# Altium schematic symbol library Optocoupler.SCHLIB: 76 symbols
Pins are listed as number, name and electrical type; pins without a type are passive.

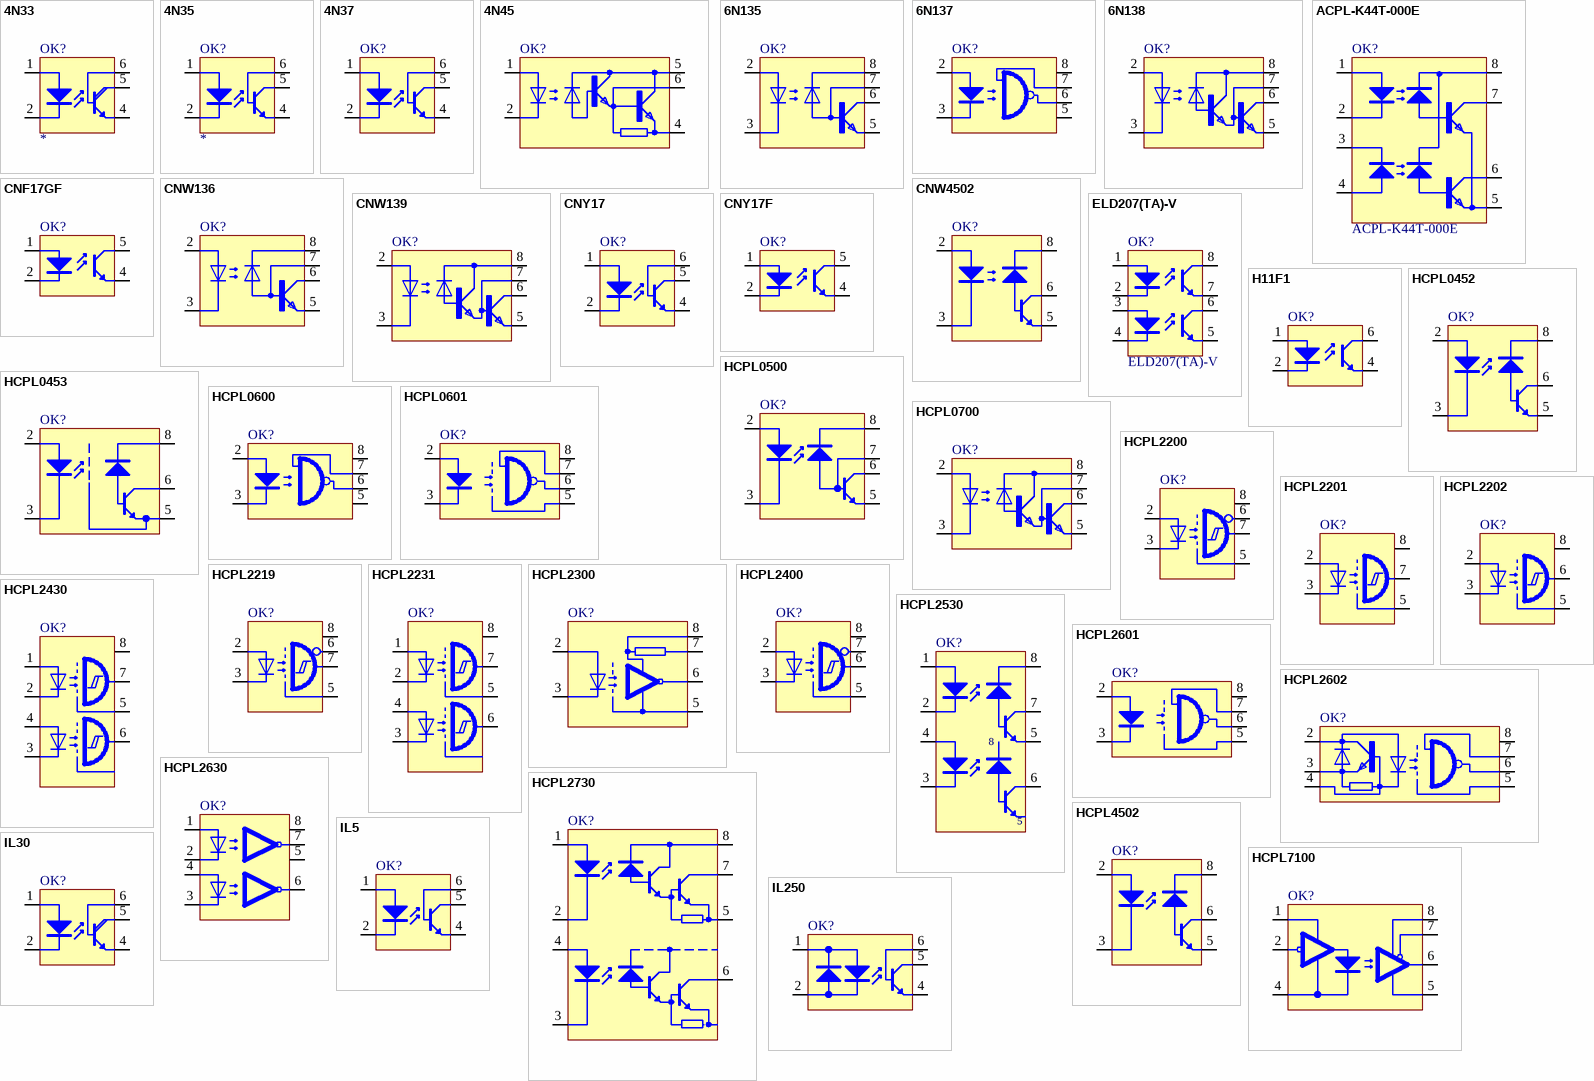
[diagram p0: symbols 4N33 to IL250]

## 4N33
designator OK?
Optocoupler, Photodarlington Output, High Gain,  with Base Connection; Populated: Yes; Value: *; LifeCycle: Checked; ROHS: Yes
footprint DIL06
pins: 1 A, 2 C, 4 E, 5 COL, 6 B

## 4N35
designator OK?
Optocoupler, Photodarlington Output with Base Connection; Populated: Yes; Value: *; LifeCycle: Checked; ROHS: Yes
footprint DIL06
pins: 1 A, 2 C, 4 EMI, 5 COL, 6 BAS

## 4N37
designator OK?
Optocoupler, Photodarlington Output with Base Connection; Populated: Yes; LifeCycle: Checked; ROHS: Yes
footprint DIL06
pins: 1 A, 2 C, 4 EMI, 5 COL, 6 BAS

## 4N45
designator OK?
Optocoupler High Gain Darlington Output; Populated: Yes; LifeCycle: Checked; ROHS: Yes
footprint DIL06
pins: 1 A, 2 C, 4 GND, 5 VO, 6 B

## 6N135
designator OK?
Optocoupler High Speed; Populated: Yes; LifeCycle: Checked; ROHS: Yes
footprint DIL08
pins: 2 A, 3 C, 5 GND, 6 VO, 7 VB, 8 VCC

## 6N137
designator OK?
Optocoupler; Populated: Yes; LifeCycle: Checked; ROHS: Yes
footprint DIL08
pins: 2 A, 3 C, 5 GND, 6 VO, 7 VE, 8 VCC

## 6N138
designator OK?
Optocoupler; Populated: Yes; LifeCycle: Checked; ROHS: Yes
footprint DIL08
pins: 2 A, 3 C, 5 GND, 6 VO, 7 VB, 8 VCC

## ACPL-K44T-000E
designator OK?
OPTOISOLATOR 5KV 2CH TRANSISTOR; Manufacturer: Broadcom Limited; Number of Channels: 2; Voltage - Isolation: 5000Vrms; Current Transfer Ratio (Min): 32% @ 10mA; Current Transfer Ratio (Max): 100% @ 10mA; Turn On / Turn Off Time (Typ): 150ns, 500ns; Input Type: DC; Voltage - Output (Max): 20V; Current - Output / Channel: 8mA; Voltage - Forward (Vf) (Typ): 1.55V; Current - DC Forward (If) (Max): 20mA; Supplier 1: Digi-Key; Manufacturer Part Number: ACPL-K44T-000E; RoHS: RoHS Compliant; Category: Isolators; Stock 1: 1090; Pricing 1: 1=7.06, 10=5.885, 25=4.9436, 100=4.2372, 250=3.7664, 500=3.4133, 1000=3.13082, 2500=3.00135 (USD); Packaging: Tube; Rise / Fall Time (Typ): -; Output Type: Transistor; Vce Saturation (Max): -; Operating Temperature: -40°C ~ 125°C; Mounting Type: Surface Mount; Package / Case: 8-SOIC (0.268", 6.81mm Width); Supplier Device Package: 8-SO; ComponentLink1URL: http://www.avagotech.com/docs/AV02-3179EN; ComponentLink1Description: http://www.avagotech.com/docs/AV02-3179EN; Supplier Part Number 1: 516-3288-5-ND; Value: ACPL-K44T-000E
footprint ACPL-K44T-000E (SOIC, 8-Leads, Body 5,85x6,81mm, Pitch 1,27mm, IPC Low Density)
pins: 1 A1, 2 C1, 3 C2, 4 A2, 5 GND, 6 VO2, 7 VO1, 8 VCC

## CNF17GF
designator OK?
Optocoupler; Populated: Yes; LifeCycle: Checked; ROHS: Yes
footprint DIL06B
pins: 1 A, 2 C, 4 EMIT, 5 COL

## CNW136
designator OK?
Optocoupler; Populated: Yes; LifeCycle: Checked; ROHS: Yes
footprint DIL08HP4
pins: 2 A, 3 C, 5 GND, 6 VO, 7 VB, 8 VCC

## CNW139
designator OK?
Optocoupler; Populated: Yes; LifeCycle: Checked; ROHS: Yes
footprint DIL08HP4
pins: 2 A, 3 C, 5 GND, 6 VO, 7 VB, 8 VCC

## CNW4502
designator OK?
Optocoupler; Populated: Yes; LifeCycle: Checked; ROHS: Yes
footprint DIL08HP4
pins: 2 A, 3 C, 5 GND, 6 VO, 8 VCC

## CNY17
designator OK?
Optocoupler; Populated: Yes; LifeCycle: Checked; ROHS: Yes
footprint DIL06
pins: 1 A, 2 C, 4 EMI, 5 COL, 6 BAS

## CNY17F
designator OK?
Optocoupler; Populated: Yes; LifeCycle: Checked; ROHS: Yes
footprint DIL06
pins: 1 A, 2 C, 4 EMIT, 5 COL

## ELD207(TA)-V
designator OK?
Optocoupler DC-IN 2-CH Transistor DC-OUT 8-Pin SOP T/R; Manufacturer 1: Everlight; Forward Voltage: 1.2V; Max Output Voltage: 80V; Max Collector Current: 50mA; Collector Emitter Saturation Voltage: 400mV; Max Input Current: 60mA; Number of Channels: 2; Max Power Dissipation: 250mW; Supplier 1: Digi-Key; Manufacturer Part Number 1: ELD207(TA)-V; Stock 1: 80357; Pricing 1: 1=0,72000, 10=0,56400, 100=0,36230, 500=0,30590, 1000=0,24150 (USD); RoHS: Yes; Mount: Surface Mount; Case/Package: SOP; Number of Pins: 8; Min Operating Temperature: -55°C; Max Operating Temperature: 110°C; Packaging: Tape and Reel; Package Quantity: 1; Collector Emitter Voltage (VCEO): 400mV; Lead Free: Lead Free; ComponentLink1URL: https://datasheet.ciiva.com/2086/eld20x-21x-2086837.pdf?src-supplier=Digi-Key; ComponentLink1Description: https://datasheet.ciiva.com/2086/eld20x-21x-2086837.pdf?src-supplier=Digi-Key; ComponentLink2URL: https://datasheet.ciiva.com/2086/eld20x-21x-2086838.pdf?src-supplier=Digi-Key; ComponentLink2Description: https://datasheet.ciiva.com/2086/eld20x-21x-2086838.pdf?src-supplier=Digi-Key; ComponentLink3URL: https://datasheet.ciiva.com/2086/eld20x-21x-2086839.pdf?src-supplier=Digi-Key; ComponentLink3Description: https://datasheet.ciiva.com/2086/eld20x-21x-2086839.pdf?src-supplier=Digi-Key; Value: ELD207(TA)-V; Supplier Part Number 1: 1080-1200-1-ND
footprint SOIC127P580X318-8N (SOIC, 8-Leads, Body 4,88x3,92mm, Pitch 1,27mm, IPC Medium Density)
pins: 1 A, 2 C, 3 A, 4 C, 5 EMIT, 6 COL, 7 EMIT, 8 COL

## H11F1
designator OK?
Optocoupler; Populated: Yes; LifeCycle: Checked; ROHS: Yes
footprint DIL05
pins: 1 A, 2 C, 4 EMIT, 6 COL

## HCPL0452
designator OK?
Optocoupler; Populated: Yes; LifeCycle: Checked; ROHS: Yes
footprint SOIC08
pins: 2 A, 3 C, 5 GND, 6 VO, 8 VCC

## HCPL0453
designator OK?
Optocoupler; Populated: Yes; LifeCycle: Checked; ROHS: Yes
footprint SOIC08
pins: 2 A, 3 C, 5 GND, 6 VO, 8 VCC

## HCPL0500
designator OK?
Optocoupler; Populated: Yes; LifeCycle: Checked; ROHS: Yes
footprint SOIC08
pins: 2 A, 3 C, 5 GND, 6 VO, 7 VB, 8 VCC

## HCPL0600
designator OK?
Optocoupler; Populated: Yes; LifeCycle: Checked; ROHS: Yes
footprint SOIC08
pins: 2 A, 3 C, 5 GND, 6 VO, 7 VE, 8 VCC

## HCPL0601
designator OK?
Optocoupler; Populated: Yes; LifeCycle: Checked; ROHS: Yes
footprint SOIC08
pins: 2 A, 3 C, 5 GND, 6 VO, 7 VE, 8 VCC

## HCPL0700
designator OK?
Optocoupler; Populated: Yes; LifeCycle: Checked; ROHS: Yes
footprint SOIC08
pins: 2 A, 3 C, 5 GND, 6 VO, 7 VB, 8 VCC

## HCPL2200
designator OK?
Optocoupler; Populated: Yes; LifeCycle: Checked; ROHS: Yes
footprint DIL08
pins: 2 A, 3 C, 5 GND, 6 VE, 7 VO, 8 VCC

## HCPL2201
designator OK?
Optocoupler; Populated: Yes; LifeCycle: Checked; ROHS: Yes
footprint DIL08
pins: 2 A, 3 C, 5 GND, 7 OUT, 8 VCC

## HCPL2202
designator OK?
Optocoupler; Populated: Yes; LifeCycle: Checked; ROHS: Yes
footprint DIL08
pins: 2 A, 3 C, 5 GND, 6 OUT, 8 VCC

## HCPL2219
designator OK?
Optocoupler; Populated: Yes; LifeCycle: Checked; ROHS: Yes
footprint DIL08
pins: 2 A, 3 C, 5 GND, 6 VE, 7 VO, 8 VCC

## HCPL2231
designator OK?
Optocoupler; Populated: Yes; LifeCycle: Checked; ROHS: Yes
footprint DIL08
pins: 1 A, 2 C, 3 C, 4 A, 5 GND, 6 OUT, 7 OUT, 8 VCC

## HCPL2300
designator OK?
Optocoupler; Populated: Yes; LifeCycle: Checked; ROHS: Yes
footprint DIL08
pins: 2 A, 3 C, 5 GND, 6 VO, 7 RL, 8 VCC

## HCPL2400
designator OK?
Optocoupler; Populated: Yes; LifeCycle: Checked; ROHS: Yes
footprint DIL08
pins: 2 A, 3 C, 5 GND, 6 VO, 7 VE, 8 VCC

## HCPL2430
designator OK?
Optocoupler; Populated: Yes; LifeCycle: Checked; ROHS: Yes
footprint DIL08
pins: 1 A, 2 C, 3 C, 4 A, 5 GND, 6 OUT, 7 OUT, 8 VCC

## HCPL2530
designator OK?
Optocoupler; Populated: Yes; LifeCycle: Checked; ROHS: Yes
footprint DIL08
pins: 1 A1, 2 C1, 3 C2, 4 A2, 5 GND, 6 VO2, 7 VO1, 8 VCC

## HCPL2601
designator OK?
Optocoupler; Populated: Yes; LifeCycle: Checked; ROHS: Yes
footprint DIL08
pins: 2 A, 3 C, 5 GND, 6 OUT, 7 EN, 8 VCC

## HCPL2602
designator OK?
Optocoupler; Populated: Yes; LifeCycle: Checked; ROHS: Yes
footprint DIL08
pins: 2 +, 3 -, 4 B, 5 GND, 6 OUT, 7 EN, 8 VCC

## HCPL2630
designator OK?
Optocoupler; Populated: Yes; LifeCycle: Checked; ROHS: Yes
footprint DIL08
pins: 1 A1, 2 C1, 3 C2, 4 A2, 5 GND, 6 VO2, 7 VO1, 8 VCC

## HCPL2730
designator OK?
Optocoupler; Populated: Yes; LifeCycle: Checked; ROHS: Yes
footprint DIL08
pins: 1 A1, 2 C1, 3 C2, 4 A2, 5 GND, 6 VO2, 7 VO1, 8 VCC

## HCPL4502
designator OK?
Optocoupler; Populated: Yes; LifeCycle: Checked; ROHS: Yes
footprint DIL08
pins: 2 A, 3 C, 5 GND, 6 VO, 8 VCC

## HCPL7100
designator OK?
Optocoupler; Populated: Yes; LifeCycle: Checked; ROHS: Yes
footprint DIL08
pins: 1 VDD1, 2 VI, 4 GND1, 5 GND2, 6 VO, 7 VE, 8 VDD2

## IL5
designator OK?
Optocoupler; Populated: Yes; LifeCycle: Checked; ROHS: Yes
footprint DIL06
pins: 1 A, 2 C, 4 EMI, 5 COL, 6 BAS

## IL30
designator OK?
Optocoupler; Populated: Yes; LifeCycle: Checked; ROHS: Yes
footprint DIL06
pins: 1 A, 2 C, 4 E, 5 COL, 6 B

## IL250
designator OK?
Optocoupler; Populated: Yes; LifeCycle: Checked; ROHS: Yes
footprint DIL06
pins: 1 AC1, 2 AC2, 4 E, 5 C, 6 B

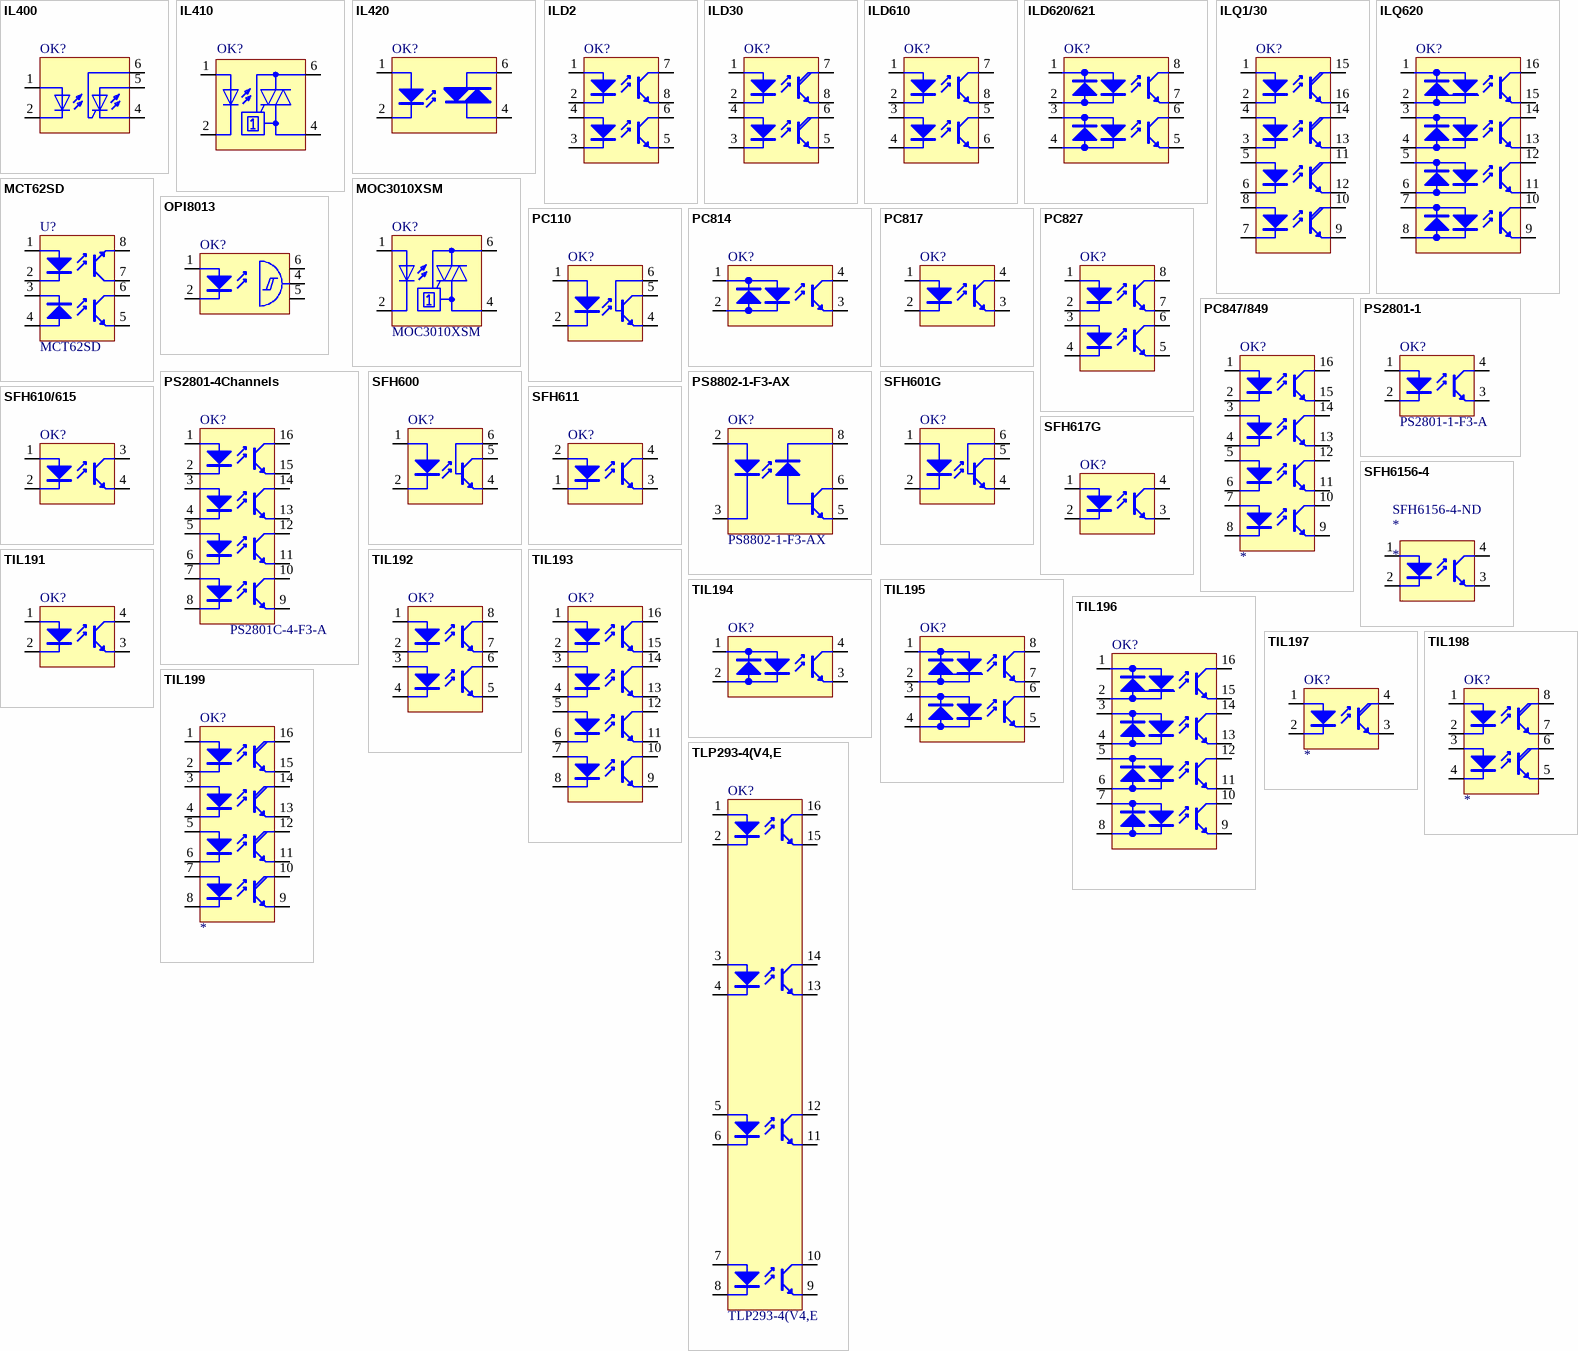
[diagram p1: symbols IL400 to TLP293-4(V4,E]

## IL400
designator OK?
Optocoupler; Populated: Yes; LifeCycle: Checked; ROHS: Yes
footprint DIL06
pins: 1 A, 2 C, 4 CT, 5 AT, 6 G

## IL410
designator OK?
Optocoupler; Populated: Yes; LifeCycle: Checked; ROHS: Yes
footprint DIL06
pins: 1 A, 2 C, 4 A1, 6 A2

## IL420
designator OK?
Optocoupler; Populated: Yes; LifeCycle: Checked; ROHS: Yes
footprint DIL06
pins: 1 A, 2 C, 4 A1, 6 A2

## ILD2
designator OK?
Optocoupler; Populated: Yes; LifeCycle: Checked; ROHS: Yes
footprint DIL08
pins: 1 A, 2 C, 3 C, 4 A, 5 EMIT, 6 COL, 7 COL, 8 EMIT

## ILD30
designator OK?
Optocoupler; Populated: Yes; LifeCycle: Checked; ROHS: Yes
footprint DIL08
pins: 1 A, 2 C, 3 C, 4 A, 5 EMI, 6 COL, 7 COL, 8 EMI

## ILD610
designator OK?
Optocoupler; Populated: Yes; LifeCycle: Checked; ROHS: Yes
footprint DIL08
pins: 1 A, 2 C, 3 A, 4 C, 5 COL, 6 EMIT, 7 COL, 8 EMIT

## ILD620/621
designator OK?
Optocoupler; Populated: Yes; LifeCycle: Checked; ROHS: Yes
footprint DIL08
pins: 1 AC1, 2 AC2, 3 AC1, 4 AC2, 5 E, 6 C, 7 E, 8 C

## ILQ1/30
designator OK?
Optocoupler; Populated: Yes; LifeCycle: Checked; ROHS: Yes
footprint DIL16
pins: 1 A, 2 C, 3 C, 4 A, 5 A, 6 C, 7 C, 8 A, 9 EMIT, 10 COL, 11 COL, 12 EMIT, 13 EMIT, 14 COL, 15 COL, 16 EMIT

## ILQ620
designator OK?
Optocoupler; Populated: Yes; LifeCycle: Checked; ROHS: Yes
footprint DIL16
pins: 1 AC1, 2 AC2, 3 AC1, 4 AC2, 5 AC1, 6 AC2, 7 AC1, 8 AC2, 9 E, 10 C, 11 E, 12 C, 13 E, 14 C, 15 E, 16 C

## MCT62SD
designator U?
Optocoupler DC-IN 2-Channel Transistor DC Output 8-Pin PDIP Surface Mount Black; Manufacturer 1: ON Semiconductor / Fairchild; Number of Channels: 2; Collector Emitter Voltage (VCEO): 400mV; Max Power Dissipation: 400mW; Reverse Breakdown Voltage: 25V; Forward Voltage: 1.5V; Forward Current: 60mA; Max Output Voltage: 30V; Output Current per Channel: 30mA; Isolation Voltage: 5kV; Rise Time: 2.4us; Supplier 1: Digi-Key; Manufacturer Part Number 1: MCT62SD; Stock 1: 11581; Pricing 1: 1=1,06000, 10=0,82100, 100=0,52760, 500=0,44556 (USD); RoHS: Yes; Mount: Surface Mount; Case/Package: SMD/SMT; Number of Pins: 8; Weight: 0.774g; Min Operating Temperature: -55°C; Max Operating Temperature: 100°C; Package Quantity: 1; Packaging: Tape and Reel; Collector Emitter Saturation Voltage: 400mV; Max Collector Current: 30mA; Number of Elements: 2; Power Dissipation: 400mW; Max Input Current: 60mA; Number of Circuits: 2; Output Voltage: 30V; Radiation Hardening: No; Lead Free: Lead Free; REACH SVHC: No SVHC; ComponentLink1URL: https://datasheet.ciiva.com/27747/978236-27747605.pdf?src-supplier=Jameco; ComponentLink1Description: https://datasheet.ciiva.com/27747/978236-27747605.pdf?src-supplier=Jameco; ComponentLink2URL: https://datasheet.ciiva.com/15118/getdatasheetpartid-41651-15118401.pdf?src-supplier=Verical; ComponentLink2Description: https://datasheet.ciiva.com/15118/getdatasheetpartid-41651-15118401.pdf?src-supplier=Verical; ComponentLink3URL: https://datasheet.ciiva.com/8095/mct6-8095621.pdf?src-supplier=Avnet; ComponentLink3Description: https://datasheet.ciiva.com/8095/mct6-8095621.pdf?src-supplier=Avnet; ComponentLink4URL: https://datasheet.ciiva.com/2085/mct6-2085990.pdf?src-supplier=Digi-Key; ComponentLink4Description: https://datasheet.ciiva.com/2085/mct6-2085990.pdf?src-supplier=Digi-Key; ComponentLink5URL: https://datasheet.ciiva.com/17000/mct62-17000790.pdf?src-supplier=Future+Electronics; ComponentLink5Description: https://datasheet.ciiva.com/17000/mct62-17000790.pdf?src-supplier=Future+Electronics; ComponentLink6URL: https://datasheet.ciiva.com/2085/mct6-2085991.pdf?src-supplier=Digi-Key; ComponentLink6Description: https://datasheet.ciiva.com/2085/mct6-2085991.pdf?src-supplier=Digi-Key; ComponentLink7URL: https://datasheet.ciiva.com/2085/mct6-2085989.pdf?src-supplier=Digi-Key; ComponentLink7Description: https://datasheet.ciiva.com/2085/mct6-2085989.pdf?src-supplier=Digi-Key; ComponentLink8URL: https://datasheet.ciiva.com/26122/mct6-26122999.pdf?src-supplier=Avnet+Europe; ComponentLink8Description: https://datasheet.ciiva.com/26122/mct6-26122999.pdf?src-supplier=Avnet+Europe; Value: MCT62SD; Supplier Part Number 1: MCT62SDCT-ND
footprint 8-SMD
pins: 1 A, 2 C, 3 A, 4 C, 5 COL, 6 EMIT, 7 COL, 8 EMIT

## MOC3010XSM
designator OK?
Optoisolator 5.3KV TRIAC 6SMD; Populated: Yes; Value: MOC3010XSM; LifeCycle: Checked; ROHS: Yes; Supplier 1: Digi-Key; Supplier Part Number 1: MOC3010XSM-ND
footprint DIL6-SMD
pins: 1 A, 2 C, 4 A1, 6 A2

## OPI8013
designator OK?
Optocoupler; Populated: Yes; LifeCycle: Checked; ROHS: Yes
footprint DIL06
pins: 1 A, 2 C, 4 OUT, 5 GND, 6 VCC

## PC110
designator OK?
Optocoupler; Populated: Yes; LifeCycle: Checked; ROHS: Yes
footprint DIL06
pins: 1 A, 2 C, 4 EMI, 5 COL, 6 BAS

## PC814
designator OK?
Optocoupler; Populated: Yes; LifeCycle: Checked; ROHS: Yes
footprint DIL04
pins: 1 AC1, 2 AC2, 3 E, 4 C

## PC817
designator OK?
Optocoupler; Populated: Yes; LifeCycle: Checked; ROHS: Yes
footprint DIL04
footprint DIL4-SMD
pins: 1 A, 2 C, 3 EMIT, 4 COL

## PC827
designator OK?
Optocoupler; Populated: Yes; LifeCycle: Checked; ROHS: Yes
footprint DIL08
pins: 1 A, 2 C, 3 A, 4 C, 5 EMIT, 6 COL, 7 EMIT, 8 COL

## PC847/849
designator OK?
Optoisolator 4-Channels; Populated: Yes; Value: *; LifeCycle: Checked; ROHS: Yes
footprint DIL16
pins: 1 A, 2 C, 3 A, 4 C, 5 A, 6 C, 7 A, 8 C, 9 EMIT, 10 COL, 11 EMIT, 12 COL, 13 EMIT, 14 COL, 15 EMIT, 16 COL

## PS2801-1
designator OK?, comment PS2801-1-F3-A
Optoisolator Single; Manuf1: CEL; Populated: Yes; Manuf1Partnumber: PS2801-1-F3-A; PackageReference: SSOP4; Supplier 1: Digi-Key; ROHS: Yes; LifeCycle: Checked; Supplier Part Number 1: PS2801-1ACT-ND; Value: PS2801-1-F3-A
footprint SSOP4
pins: 1 A, 2 C, 3 EMIT, 4 COL

## PS2801-4Channels
designator OK?, comment PS2801C-4-F3-A
Optoisolator 4-Channels; Populated: Yes; Value: PS2801C-4-F3-A; Manuf1: *; Manuf1Partnumber: *; LifeCycle: Checked; ROHS: Yes
footprint SSOP16 (SOP, 16-Leads, Body 10.30x4.40mm, Pitch 1.27mm, IPC High Density)
pins: 1 A, 2 C, 3 A, 4 C, 5 A, 6 C, 7 A, 8 C, 9 EMIT, 10 COL, 11 EMIT, 12 COL, 13 EMIT, 14 COL, 15 EMIT, 16 COL

## PS8802-1-F3-AX
designator OK?
OPTOISOLATOR 2.5KV TRANS 8SOIC; Manufacturer: CEL; Number of Channels: 1; Voltage - Isolation: 2500Vrms; Current Transfer Ratio (Min): 15% @ 16mA; Current Transfer Ratio (Max): 45% @ 16mA; Turn On / Turn Off Time (Typ): 300ns, 600ns; Input Type: DC; Output Type: Transistor; Voltage - Output (Max): 35V; Current - Output / Channel: 8mA; Voltage - Forward (Vf) (Typ): 1.7V; Current - DC Forward (If) (Max): 25mA; Supplier 1: Digi-Key; Manufacturer Part Number: PS8802-1-F3-AX; RoHS: RoHS Compliant; Category: Isolators; Stock 1: 3233; Pricing 1: 1=3.27, 10=2.899, 25=2.1504, 100=1.87, 250=1.683, 500=1.496 (USD); Packaging: Cut Tape (CT); Part Status: Active; Rise / Fall Time (Typ): -; Vce Saturation (Max): -; Operating Temperature: -55°C ~ 100°C; Mounting Type: Surface Mount; Package / Case: 8-SOIC (0.154", 3.90mm Width); Supplier Device Package: 8-SSOP; ComponentLink1URL: http://www.cel.com/pdf/datasheets/ps8802.pdf; ComponentLink1Description: http://www.cel.com/pdf/datasheets/ps8802.pdf; Value: PS8802-1-F3-AX; Supplier Part Number 1: PS8802-1-F3-AXCT-ND
footprint SOIC8_0.154x3.90
pins: 2 A, 3 C, 5 GND, 6 VO, 8 VCC

## SFH600
designator OK?
Optocoupler; Populated: Yes; LifeCycle: Checked; ROHS: Yes
footprint DIL06
pins: 1 A, 2 C, 4 EMI, 5 COL, 6 BAS

## SFH601G
designator OK?
Optocoupler; Populated: Yes; LifeCycle: Checked; ROHS: Yes
footprint DIL06B
pins: 1 A, 2 C, 4 EMI, 5 COL, 6 BAS

## SFH610/615
designator OK?
Optocoupler; Populated: Yes; LifeCycle: Checked; ROHS: Yes
footprint DIL04
pins: 1 A, 2 C, 3 COL, 4 EMIT

## SFH611
designator OK?
Optocoupler; Populated: Yes; LifeCycle: Checked; ROHS: Yes
footprint DIL04
pins: 1 C, 2 A, 3 EMIT, 4 COL

## SFH617G
designator OK?
Optocoupler; Populated: Yes; LifeCycle: Checked; ROHS: Yes
footprint DIL04B
pins: 1 A, 2 C, 3 EMIT, 4 COL

## SFH6156-4
designator *  Supplier Part Number 1: SFH6156-4-ND
Optocoupler DC-IN 1-CH Transistor DC-OUT 4-Pin PDIP SMD; Manufacturer: Vishay; Manufacturer Part Number: SFH6156-4; Reverse Breakdown Voltage: 6V; Forward Voltage: 1.25V; Forward Current: 60mA; Number of Channels: 1; Collector Emitter Voltage (VCEO): 70V; Max Power Dissipation: 150mW; Output Current per Channel: 50mA; Collector Emitter Saturation Voltage: 400mV; Max Collector Current: 100mA; Isolation Voltage: 5.3kV; Current Transfer Ratio: 320%; Supplier 1: Digi-Key; Stock 1: 2900; Pricing 1: 1=0.78, 10=0.609, 25=0.5048, 100=0.435, 250=0.3828, 500=0.3306, 1000=0.261, 2500=0.2436, 5000=0.2349 (USD); Mount: Surface Mount; Case/Package: SMD/SMT; Number of Pins: 4; Min Operating Temperature: -55°C; Max Operating Temperature: 100°C; Package Quantity: 4000; Packaging: Rail/Tube; Max Output Voltage: 70V; Number of Elements: 1; Power Dissipation: 150mW; Max Input Current: 60mA; Input Current: 60mA; Output Voltage: 70V; Voltage Rating (DC): 1.25V; Radiation Hardening: No; REACH SVHC: No SVHC; ComponentLink1URL: https://datasheet.ciiva.com/4701/sfh615a-240289-4701563.pdf; ComponentLink1Description: https://datasheet.ciiva.com/4701/sfh615a-240289-4701563.pdf
footprint DIL4-SMD
pins: 1 A, 2 C, 3 EMIT, 4 COL

## TIL191
designator OK?
Optocoupler; Populated: Yes; LifeCycle: Checked; ROHS: Yes
footprint DIL04
pins: 1 A, 2 C, 3 EMIT, 4 COL

## TIL192
designator OK?
Optocoupler; Populated: Yes; LifeCycle: Checked; ROHS: Yes
footprint DIL08
pins: 1 A, 2 C, 3 A, 4 C, 5 EMIT, 6 COL, 7 EMIT, 8 COL

## TIL193
designator OK?
Optocoupler; Populated: Yes; LifeCycle: Checked; ROHS: Yes
footprint DIL16
pins: 1 A, 2 C, 3 A, 4 C, 5 A, 6 C, 7 A, 8 C, 9 EMIT, 10 COL, 11 EMIT, 12 COL, 13 EMIT, 14 COL, 15 EMIT, 16 COL

## TIL194
designator OK?
Optocoupler; Populated: Yes; LifeCycle: Checked; ROHS: Yes
footprint DIL04
pins: 1 AC1, 2 AC2, 3 E, 4 C

## TIL195
designator OK?
Optocoupler; Populated: Yes; LifeCycle: Checked; ROHS: Yes
footprint DIL08
pins: 1 AC1, 2 AC2, 3 AC1, 4 AC2, 5 E, 6 C, 7 E, 8 C

## TIL196
designator OK?
Optocoupler; Populated: Yes; LifeCycle: Checked; ROHS: Yes
footprint DIL16
pins: 1 AC1, 2 AC2, 3 AC1, 4 AC2, 5 AC1, 6 AC2, 7 AC1, 8 AC2, 9 E, 10 C, 11 E, 12 C, 13 E, 14 C, 15 E, 16 C

## TIL197
designator OK?
Optocoupler; Populated: Yes; Value: *; LifeCycle: Checked; ROHS: Yes
footprint DIL04
pins: 1 A, 2 C, 3 EMI, 4 COL

## TIL198
designator OK?
Optocoupler; Populated: Yes; Value: *; LifeCycle: Checked; ROHS: Yes
footprint DIL08
pins: 1 A, 2 C, 3 A, 4 C, 5 EMI, 6 COL, 7 EMI, 8 COL

## TIL199
designator OK?
Optocoupler; Populated: Yes; Value: *; LifeCycle: Checked; ROHS: Yes
footprint DIL16
pins: 1 A, 2 C, 3 A, 4 C, 5 A, 6 C, 7 A, 8 C, 9 EMI, 10 COL, 11 EMI, 12 COL, 13 EMI, 14 COL, 15 EMI, 16 COL

## TLP293-4(V4,E
designator OK?
OPTOISOLATOR 3.75KV TRANS SO16; Manufacturer: Toshiba Semiconductor and Storage; Voltage - Isolation: 3750Vrms; Current Transfer Ratio (Min): 50% @ 5mA; Current Transfer Ratio (Max): 600% @ 5mA; Turn On / Turn Off Time (Typ): 3µs, 3µs; Rise / Fall Time (Typ): 2µs, 3µs; Input Type: DC; Output Type: Transistor; Voltage - Output (Max): 80V; Current - Output / Channel: 50mA; Voltage - Forward (Vf) (Typ): 1.25V; Vce Saturation (Max): 300mV; Supplier 1: Digi-Key; Manufacturer Part Number: TLP293-4(V4,E; RoHS: RoHS Compliant; Category: Isolators; Stock 1: 141; Pricing 1: 1=1.25, 10=1.014, 50=0.78, 100=0.702, 250=0.624, 500=0.5304, 1000=0.4368, 2500=0.41496, 5000=0.4056 (USD); Packaging: Tube; Part Status: Active; Current - DC Forward (If) (Max): 50mA; Operating Temperature: -55°C ~ 125°C; Mounting Type: Surface Mount; Package / Case: 16-SOIC (0.179", 4.55mm Width); Supplier Device Package: 16-SO; ComponentLink1URL: https://toshiba.semicon-storage.com/info/docget.jsp?did=15287&prodName=TLP293-4; ComponentLink1Description: https://toshiba.semicon-storage.com/info/docget.jsp?did=15287&prodName=TLP293-4; Value: TLP293-4(V4,E; Supplier Part Number 1: TLP293-4(V4E-ND
footprint SO16
pins: 1 A, 2 C, 3 A, 4 C, 5 A, 6 C, 7 A, 8 C, 9 EMIT, 10 COL, 11 EMIT, 12 COL, 13 EMIT, 14 COL, 15 EMIT, 16 COL